# Altium schematic symbol library 16 MHz Crystal.SchLib: 1 symbol
Pins are listed as number, name and electrical type; pins without a type are passive.

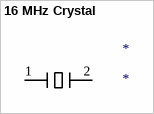
[diagram p0: symbol 16 MHz Crystal]

## 16 MHz Crystal
designator *
footprint DFN380P500X110-4N (DFN, 4-Leads, Body 3.20x5.00mm, Pitch 3.80mm, IPC Medium Density)
pins: 1, 2